# Altium schematic symbol library 691 322 310 0xx.SchLib: 23 symbols
Pins are listed as number, name and electrical type; pins without a type are passive.

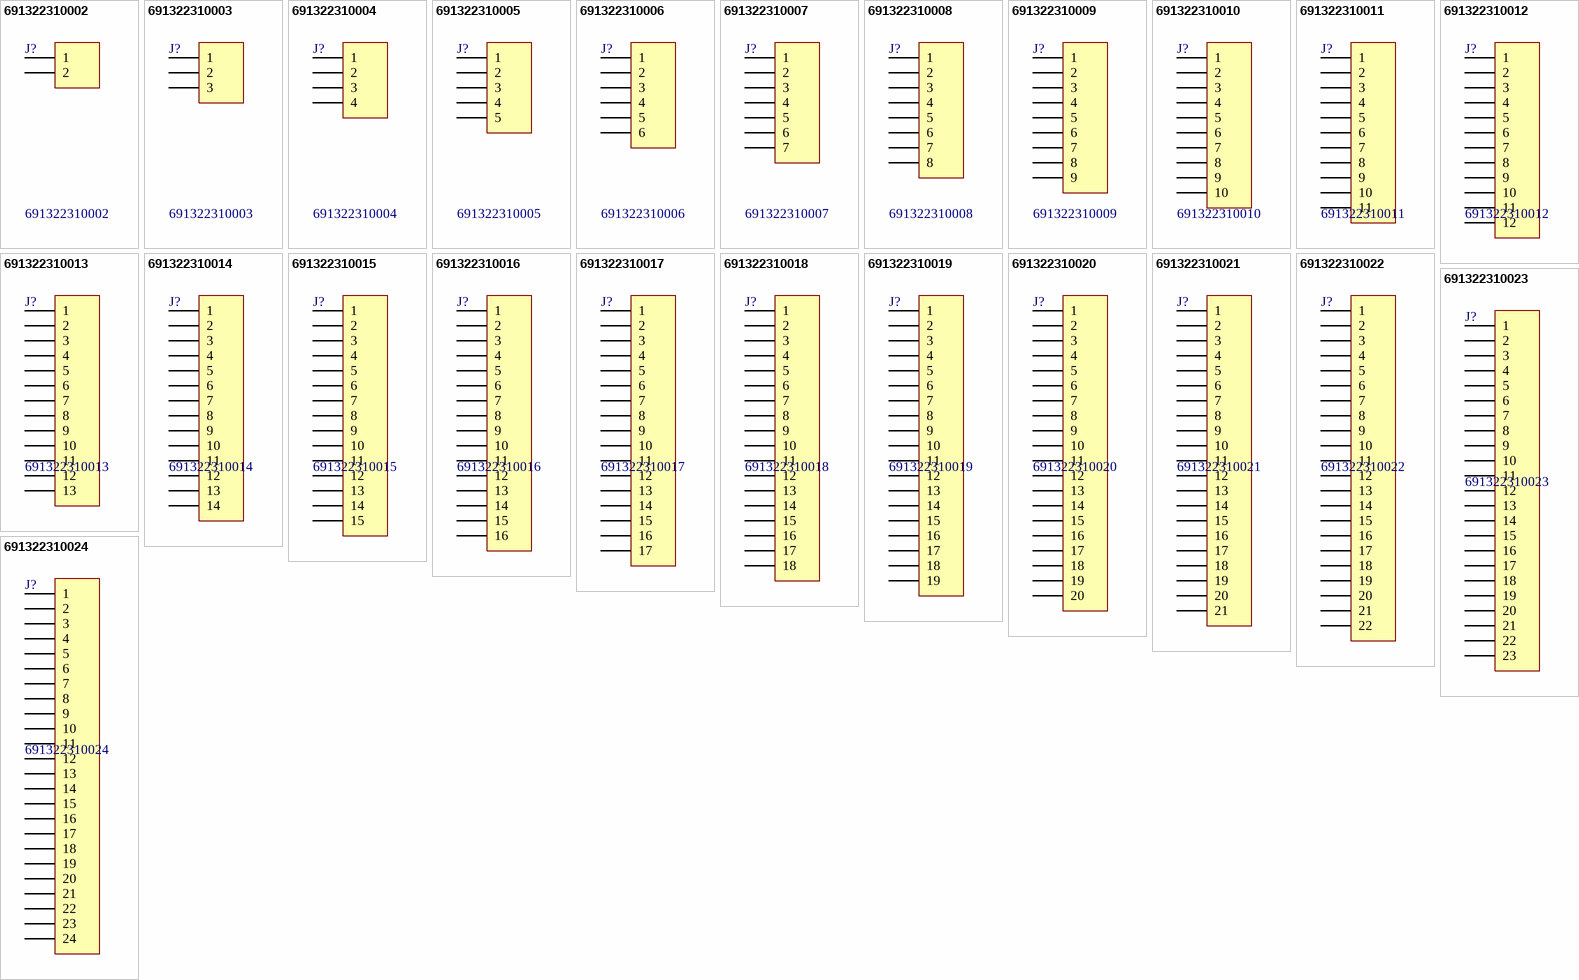
[diagram p0: symbols 691322310002 to 691322310024]

## 691322310002
designator J?
WR-TBL Terminal block - serie 322 - 3.81 mm; Manufacturer: Würth Elektronik eiSos GmbH; ComponentLink1 Description: Manufacturer; ComponentLink2 Description: Datasheet; NoPins: 02; Created Date: 25 December 2013; partNo: 691322310002; ComponentLink1URL: http://www.we-online.com; ComponentLink2URL: http://katalog.we-online.de/em/datasheet/6913223100xx.pdf; Created by: Karrer Zheng
footprint 691322310002 (3,81mm - PCB Headers - Horizontal - 02p)
pins: 1, 2

## 691322310003
designator J?
WR-TBL Terminal block - serie 322 - 3.81 mm; Manufacturer: Würth Elektronik eiSos GmbH; ComponentLink1 Description: Manufacturer; ComponentLink2 Description: Datasheet; NoPins: 03; Created Date: 25 December 2013; partNo: 691322310003; ComponentLink1URL: http://www.we-online.com; ComponentLink2URL: http://katalog.we-online.de/em/datasheet/6913223100xx.pdf; Created by: Karrer Zheng
footprint 691322310003 (3,81mm - PCB Headers - Horizontal - 03p)
pins: 1, 2, 3

## 691322310004
designator J?
WR-TBL Terminal block - serie 322 - 3.81 mm; Manufacturer: Würth Elektronik eiSos GmbH; ComponentLink1 Description: Manufacturer; ComponentLink2 Description: Datasheet; NoPins: 04; Created Date: 25 December 2013; partNo: 691322310004; ComponentLink1URL: http://www.we-online.com; ComponentLink2URL: http://katalog.we-online.de/em/datasheet/6913223100xx.pdf; Created by: Karrer Zheng
footprint 691322310004 (3,81mm - PCB Headers - Horizontal - 04p)
pins: 1, 2, 3, 4

## 691322310005
designator J?
WR-TBL Terminal block - serie 322 - 3.81 mm; Manufacturer: Würth Elektronik eiSos GmbH; ComponentLink1 Description: Manufacturer; ComponentLink2 Description: Datasheet; NoPins: 05; Created Date: 25 December 2013; partNo: 691322310005; ComponentLink1URL: http://www.we-online.com; ComponentLink2URL: http://katalog.we-online.de/em/datasheet/6913223100xx.pdf; Created by: Karrer Zheng
footprint 691322310005 (3,81mm - PCB Headers - Horizontal - 05p)
pins: 1, 2, 3, 4, 5

## 691322310006
designator J?
WR-TBL Terminal block - serie 322 - 3.81 mm; Manufacturer: Würth Elektronik eiSos GmbH; ComponentLink1 Description: Manufacturer; ComponentLink2 Description: Datasheet; NoPins: 06; Created Date: 25 December 2013; partNo: 691322310006; ComponentLink1URL: http://www.we-online.com; ComponentLink2URL: http://katalog.we-online.de/em/datasheet/6913223100xx.pdf; Created by: Karrer Zheng
footprint 691322310006 (3,81mm - PCB Headers - Horizontal - 06p)
pins: 1, 2, 3, 4, 5, 6

## 691322310007
designator J?
WR-TBL Terminal block - serie 322 - 3.81 mm; Manufacturer: Würth Elektronik eiSos GmbH; ComponentLink1 Description: Manufacturer; ComponentLink2 Description: Datasheet; NoPins: 07; Created Date: 25 December 2013; partNo: 691322310007; ComponentLink1URL: http://www.we-online.com; ComponentLink2URL: http://katalog.we-online.de/em/datasheet/6913223100xx.pdf; Created by: Karrer Zheng
footprint 691322310007 (3,81mm - PCB Headers - Horizontal - 07p)
pins: 1, 2, 3, 4, 5, 6, 7

## 691322310008
designator J?
WR-TBL Terminal block - serie 322 - 3.81 mm; Manufacturer: Würth Elektronik eiSos GmbH; ComponentLink1 Description: Manufacturer; ComponentLink2 Description: Datasheet; NoPins: 08; Created Date: 25 December 2013; partNo: 691322310008; ComponentLink1URL: http://www.we-online.com; ComponentLink2URL: http://katalog.we-online.de/em/datasheet/6913223100xx.pdf; Created by: Karrer Zheng
footprint 691322310008 (3,81mm - PCB Headers - Horizontal - 08p)
pins: 1, 2, 3, 4, 5, 6, 7, 8

## 691322310009
designator J?
WR-TBL Terminal block - serie 322 - 3.81 mm; Manufacturer: Würth Elektronik eiSos GmbH; ComponentLink1 Description: Manufacturer; ComponentLink2 Description: Datasheet; NoPins: 09; Created Date: 25 December 2013; partNo: 691322310009; ComponentLink1URL: http://www.we-online.com; ComponentLink2URL: http://katalog.we-online.de/em/datasheet/6913223100xx.pdf; Created by: Karrer Zheng
footprint 691322310009 (3,81mm - PCB Headers - Horizontal - 09p)
pins: 1, 2, 3, 4, 5, 6, 7, 8, 9

## 691322310010
designator J?
WR-TBL Terminal block - serie 322 - 3.81 mm; Manufacturer: Würth Elektronik eiSos GmbH; ComponentLink1 Description: Manufacturer; ComponentLink2 Description: Datasheet; NoPins: 10; Created Date: 25 December 2013; partNo: 691322310010; ComponentLink1URL: http://www.we-online.com; ComponentLink2URL: http://katalog.we-online.de/em/datasheet/6913223100xx.pdf; Created by: Karrer Zheng
footprint 691322310010 (3,81mm - PCB Headers - Horizontal - 10p)
pins: 1, 2, 3, 4, 5, 6, 7, 8, 9, 10

## 691322310011
designator J?
WR-TBL Terminal block - serie 322 - 3.81 mm; Manufacturer: Würth Elektronik eiSos GmbH; ComponentLink1 Description: Manufacturer; ComponentLink2 Description: Datasheet; NoPins: 11; Created Date: 25 December 2013; partNo: 691322310011; ComponentLink1URL: http://www.we-online.com; ComponentLink2URL: http://katalog.we-online.de/em/datasheet/6913223100xx.pdf; Created by: Karrer Zheng
footprint 691322310011 (3,81mm - PCB Headers - Horizontal - 11p)
pins: 1, 2, 3, 4, 5, 6, 7, 8, 9, 10, 11

## 691322310012
designator J?
WR-TBL Terminal block - serie 322 - 3.81 mm; Manufacturer: Würth Elektronik eiSos GmbH; ComponentLink1 Description: Manufacturer; ComponentLink2 Description: Datasheet; NoPins: 12; Created Date: 25 December 2013; partNo: 691322310012; ComponentLink1URL: http://www.we-online.com; ComponentLink2URL: http://katalog.we-online.de/em/datasheet/6913223100xx.pdf; Created by: Karrer Zheng
footprint 691322310012 (3,81mm - PCB Headers - Horizontal - 12p)
pins: 1, 2, 3, 4, 5, 6, 7, 8, 9, 10, 11, 12

## 691322310013
designator J?
WR-TBL Terminal block - serie 322 - 3.81 mm; Manufacturer: Würth Elektronik eiSos GmbH; ComponentLink1 Description: Manufacturer; ComponentLink2 Description: Datasheet; NoPins: 13; Created Date: 25 December 2013; partNo: 691322310013; ComponentLink1URL: http://www.we-online.com; ComponentLink2URL: http://katalog.we-online.de/em/datasheet/6913223100xx.pdf; Created by: Karrer Zheng
footprint 691322310013 (3,81mm - PCB Headers - Horizontal - 13p)
pins: 1, 2, 3, 4, 5, 6, 7, 8, 9, 10, 11, 12, 13

## 691322310014
designator J?
WR-TBL Terminal block - serie 322 - 3.81 mm; Manufacturer: Würth Elektronik eiSos GmbH; ComponentLink1 Description: Manufacturer; ComponentLink2 Description: Datasheet; NoPins: 14; Created Date: 25 December 2013; partNo: 691322310014; ComponentLink1URL: http://www.we-online.com; ComponentLink2URL: http://katalog.we-online.de/em/datasheet/6913223100xx.pdf; Created by: Karrer Zheng
footprint 691322310014 (3,81mm - PCB Headers - Horizontal - 14p)
pins: 1, 2, 3, 4, 5, 6, 7, 8, 9, 10, 11, 12, 13, 14

## 691322310015
designator J?
WR-TBL Terminal block - serie 322 - 3.81 mm; Manufacturer: Würth Elektronik eiSos GmbH; ComponentLink1 Description: Manufacturer; ComponentLink2 Description: Datasheet; NoPins: 15; Created Date: 25 December 2013; partNo: 691322310015; ComponentLink1URL: http://www.we-online.com; ComponentLink2URL: http://katalog.we-online.de/em/datasheet/6913223100xx.pdf; Created by: Karrer Zheng
footprint 691322310015 (3,81mm - PCB Headers - Horizontal - 15p)
pins: 1, 2, 3, 4, 5, 6, 7, 8, 9, 10, 11, 12, 13, 14, 15

## 691322310016
designator J?
WR-TBL Terminal block - serie 322 - 3.81 mm; Manufacturer: Würth Elektronik eiSos GmbH; ComponentLink1 Description: Manufacturer; ComponentLink2 Description: Datasheet; NoPins: 16; Created Date: 25 December 2013; partNo: 691322310016; ComponentLink1URL: http://www.we-online.com; ComponentLink2URL: http://katalog.we-online.de/em/datasheet/6913223100xx.pdf; Created by: Karrer Zheng
footprint 691322310016 (3,81mm - PCB Headers - Horizontal - 16p)
pins: 1, 2, 3, 4, 5, 6, 7, 8, 9, 10, 11, 12, 13, 14, 15, 16

## 691322310017
designator J?
WR-TBL Terminal block - serie 322 - 3.81 mm; Manufacturer: Würth Elektronik eiSos GmbH; ComponentLink1 Description: Manufacturer; ComponentLink2 Description: Datasheet; NoPins: 17; Created Date: 25 December 2013; partNo: 691322310017; ComponentLink1URL: http://www.we-online.com; ComponentLink2URL: http://katalog.we-online.de/em/datasheet/6913223100xx.pdf; Created by: Karrer Zheng
footprint 691322310017 (3,81mm - PCB Headers - Horizontal - 17p)
pins: 1, 2, 3, 4, 5, 6, 7, 8, 9, 10, 11, 12, 13, 14, 15, 16, 17

## 691322310018
designator J?
WR-TBL Terminal block - serie 322 - 3.81 mm; Manufacturer: Würth Elektronik eiSos GmbH; ComponentLink1 Description: Manufacturer; ComponentLink2 Description: Datasheet; NoPins: 18; Created Date: 25 December 2013; partNo: 691322310018; ComponentLink1URL: http://www.we-online.com; ComponentLink2URL: http://katalog.we-online.de/em/datasheet/6913223100xx.pdf; Created by: Karrer Zheng
footprint 691322310018 (3,81mm - PCB Headers - Horizontal -18p)
pins: 1, 2, 3, 4, 5, 6, 7, 8, 9, 10, 11, 12, 13, 14, 15, 16, 17, 18

## 691322310019
designator J?
WR-TBL Terminal block - serie 322 - 3.81 mm; Manufacturer: Würth Elektronik eiSos GmbH; ComponentLink1 Description: Manufacturer; ComponentLink2 Description: Datasheet; NoPins: 19; Created Date: 25 December 2013; partNo: 691322310019; ComponentLink1URL: http://www.we-online.com; ComponentLink2URL: http://katalog.we-online.de/em/datasheet/6913223100xx.pdf; Created by: Karrer Zheng
footprint 691322310019 (3,81mm - PCB Headers - Horizontal - 19p)
pins: 1, 2, 3, 4, 5, 6, 7, 8, 9, 10, 11, 12, 13, 14, 15, 16, 17, 18, 19

## 691322310020
designator J?
WR-TBL Terminal block - serie 322 - 3.81 mm; Manufacturer: Würth Elektronik eiSos GmbH; ComponentLink1 Description: Manufacturer; ComponentLink2 Description: Datasheet; NoPins: 20; Created Date: 25 December 2013; partNo: 691322310020; ComponentLink1URL: http://www.we-online.com; ComponentLink2URL: http://katalog.we-online.de/em/datasheet/6913223100xx.pdf; Created by: Karrer Zheng
footprint 691322310020 (3,81mm - PCB Headers - Horizontal - 20p)
pins: 1, 2, 3, 4, 5, 6, 7, 8, 9, 10, 11, 12, 13, 14, 15, 16, 17, 18, 19, 20

## 691322310021
designator J?
WR-TBL Terminal block - serie 322 - 3.81 mm; Manufacturer: Würth Elektronik eiSos GmbH; ComponentLink1 Description: Manufacturer; ComponentLink2 Description: Datasheet; NoPins: 21; Created Date: 25 December 2013; partNo: 691322310021; ComponentLink1URL: http://www.we-online.com; ComponentLink2URL: http://katalog.we-online.de/em/datasheet/6913223100xx.pdf; Created by: Karrer Zheng
footprint 691322310021 (3,81mm - PCB Headers - Horizontal - 21p)
pins: 1, 2, 3, 4, 5, 6, 7, 8, 9, 10, 11, 12, 13, 14, 15, 16, 17, 18, 19, 20, 21

## 691322310022
designator J?
WR-TBL Terminal block - serie 322 - 3.81 mm; Manufacturer: Würth Elektronik eiSos GmbH; ComponentLink1 Description: Manufacturer; ComponentLink2 Description: Datasheet; NoPins: 22; Created Date: 25 December 2013; partNo: 691322310022; ComponentLink1URL: http://www.we-online.com; ComponentLink2URL: http://katalog.we-online.de/em/datasheet/6913223100xx.pdf; Created by: Karrer Zheng
footprint 691322310022 (3,81mm - PCB Headers - Horizontal - 22p)
pins: 1, 2, 3, 4, 5, 6, 7, 8, 9, 10, 11, 12, 13, 14, 15, 16, 17, 18, 19, 20, 21, 22

## 691322310023
designator J?
WR-TBL Terminal block - serie 322 - 3.81 mm; Manufacturer: Würth Elektronik eiSos GmbH; ComponentLink1 Description: Manufacturer; ComponentLink2 Description: Datasheet; NoPins: 23; Created Date: 25 December 2013; partNo: 691322310023; ComponentLink1URL: http://www.we-online.com; ComponentLink2URL: http://katalog.we-online.de/em/datasheet/6913223100xx.pdf; Created by: Karrer Zheng
footprint 691322310023 (3,81mm - PCB Headers - Horizontal - 23p)
pins: 1, 2, 3, 4, 5, 6, 7, 8, 9, 10, 11, 12, 13, 14, 15, 16, 17, 18, 19, 20, 21, 22, 23

## 691322310024
designator J?
WR-TBL Terminal block - serie 322 - 3.81 mm; Manufacturer: Würth Elektronik eiSos GmbH; ComponentLink1 Description: Manufacturer; ComponentLink2 Description: Datasheet; NoPins: 24; Created Date: 25 December 2013; partNo: 691322310024; ComponentLink1URL: http://www.we-online.com; ComponentLink2URL: http://katalog.we-online.de/em/datasheet/6913223100xx.pdf; Created by: Karrer Zheng
footprint 691322310024 (3,81mm - PCB Headers - Horizontal - 24p)
pins: 1, 2, 3, 4, 5, 6, 7, 8, 9, 10, 11, 12, 13, 14, 15, 16, 17, 18, 19, 20, 21, 22, 23, 24